# Altium schematic symbol library IS43DR16320E-25DBLI.SchLib: 1 symbol
Pins are listed as number, name and electrical type; pins without a type are passive.

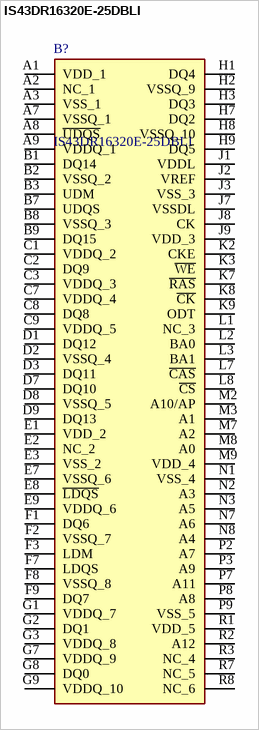
[diagram p0: symbol IS43DR16320E-25DBLI]

## IS43DR16320E-25DBLI
designator B?
INTEGRATED SILICON SOLUTION (ISSI) - IS43DR16320E-25DBLI - DRAM, 32M X 16BIT, BGA-84; Manufacturer_Name: Integrated Silicon Solution Inc.; Geometry.Height: 1.2mm; Manufacturer_Part_Number: IS43DR16320E-25DBLI; Mouser Part Number: 870-43DR16320E25DBLI; Mouser Price/Stock: https://www.mouser.co.uk/ProductDetail/ISSI/IS43DR16320E-25DBLI?qs=TO8kDJPmCBSFAFA4ahdKYw%3D%3D; Arrow Part Number: IS43DR16320E-25DBLI; Arrow Price/Stock: https://www.arrow.com/en/products/is43dr16320e-25dbli/integrated-silicon-solution-inc; Datasheet Link: http://www.issi.com/WW/pdf/43-46DR86400E-16320E.pdf
footprint BGA84C80P9X15_800X1250X120
pins: A1 VDD_1, A2 NC_1, A3 VSS_1, A7 VSSQ_1, A8 ~{UDQS}, A9 VDDQ_1, B1 DQ14, B2 VSSQ_2, B3 UDM, B7 UDQS, B8 VSSQ_3, B9 DQ15, C1 VDDQ_2, C2 DQ9, C3 VDDQ_3, C7 VDDQ_4, C8 DQ8, C9 VDDQ_5, D1 DQ12, D2 VSSQ_4, D3 DQ11, D7 DQ10, D8 VSSQ_5, D9 DQ13, E1 VDD_2, E2 NC_2, E3 VSS_2, E7 VSSQ_6, E8 ~{LDQS}, E9 VDDQ_6, F1 DQ6, F2 VSSQ_7, F3 LDM, F7 LDQS, F8 VSSQ_8, F9 DQ7, G1 VDDQ_7, G2 DQ1, G3 VDDQ_8, G7 VDDQ_9, G8 DQ0, G9 VDDQ_10, H1 DQ4, H2 VSSQ_9, H3 DQ3, H7 DQ2, H8 VSSQ_10, H9 DQ5, J1 VDDL, J2 VREF, J3 VSS_3, J7 VSSDL, J8 CK, J9 VDD_3, K2 CKE, K3 ~{WE}, K7 ~{RAS}, K8 ~{CK}, K9 ODT, L1 NC_3, L2 BA0, L3 BA1, L7 ~{CAS}, L8 ~{CS}, M2 A10/AP, M3 A1, M7 A2, M8 A0, M9 VDD_4, N1 VSS_4, N2 A3, N3 A5, N7 A6, N8 A4, P2 A7, P3 A9, P7 A11, P8 A8, P9 VSS_5, R1 VDD_5, R2 A12, R3 NC_4, R7 NC_5, R8 NC_6